# Altium integrated library 870055673001.IntLib: 2 symbols
Pins are listed as number, name and electrical type; pins without a type are passive.

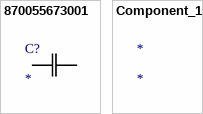
[diagram p0: symbols 870055673001 to Component_1]

## 870055673001
designator C?
No Description Available; Mfr_Name: Wurth Electronics
footprint CAP_WCAP-PTHR_6P3X8P0_WRE
pins: 1, 2

## Component_1
designator *